# EAGLE library part FTSH-105-02-L-DV-ES (library 000_VansAircraft)
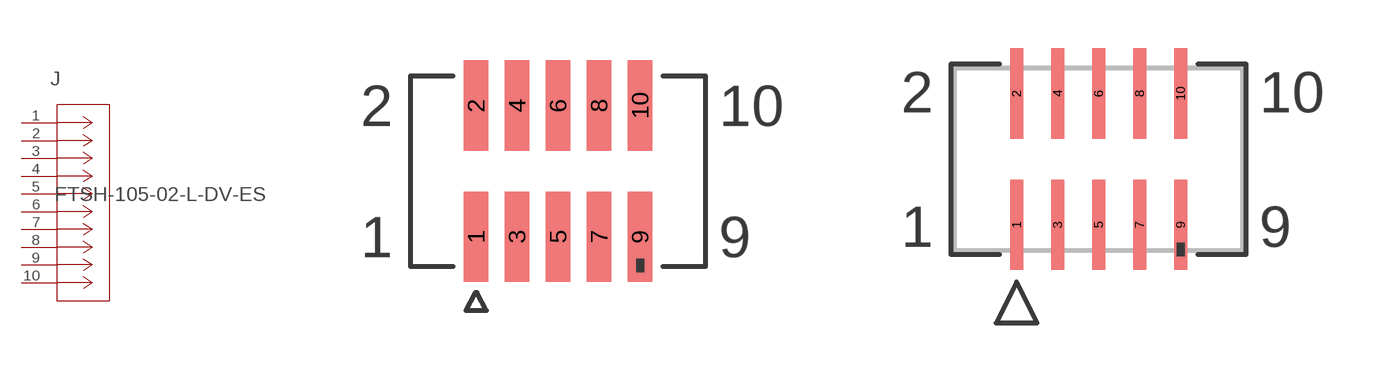
[diagram p8: symbol with the pads of CON10_2X5_DUES2_FTSH_SAI; footprints CON10_2X5_DUES2_FTSH_SAI, CON10_2X5_DUES2_FTSH_SAI-M]

Designator prefix J

## FTSH-105-02-L-DV-ES (COPYRIGHT: Copyright (C) 2025 Ultra Librarian. All rights reserved.; MANUFACTURER_NAME: Samtec Inc; MANUFACTURER_PART_NUMBER: FTSH-105-02-L-DV-ES)  [CON10_2X5_DUES2_FTSH_SAI]
1  1  pas
2  2  pas
3  3  pas
4  4  pas
5  5  pas
6  6  pas
7  7  pas
8  8  pas
9  9  pas
10  10  pas

## FTSH-105-02-L-DV-ESCON10_2X5_DUES2_FTSH_SAI-M (COPYRIGHT: Copyright (C) 2025 Ultra Librarian. All rights reserved.; MANUFACTURER_NAME: Samtec Inc; MANUFACTURER_PART_NUMBER: FTSH-105-02-L-DV-ES)  [CON10_2X5_DUES2_FTSH_SAI-M]
Pads as for CON10_2X5_DUES2_FTSH_SAI

## FTSH-105-02-L-DV-ESCON10_2X5_DUES2_FTSH_SAI-L (COPYRIGHT: Copyright (C) 2025 Ultra Librarian. All rights reserved.; MANUFACTURER_NAME: Samtec Inc; MANUFACTURER_PART_NUMBER: FTSH-105-02-L-DV-ES)  [CON10_2X5_DUES2_FTSH_SAI-L]
Pads as for CON10_2X5_DUES2_FTSH_SAI

## Footprint CON10_2X5_DUES2_FTSH_SAI (pad centres in mm)
smd 0.762 x 2.794: 1 -2.54,-2.032; 2 -2.54,2.032; 3 -1.27,-2.032; 4 -1.27,2.032; 5 0,-2.032; 6 0,2.032; 7 1.27,-2.032; 8 1.27,2.032; 9 2.54,-2.032; 10 2.54,2.032

## Footprint CON10_2X5_DUES2_FTSH_SAI-M (pad centres in mm)
smd 0.406 x 2.794: 1 -2.54,-2.032; 2 -2.54,2.032; 3 -1.27,-2.032; 4 -1.27,2.032; 5 0,-2.032; 6 0,2.032; 7 1.27,-2.032; 8 1.27,2.032; 9 2.54,-2.032; 10 2.54,2.032

## Footprint CON10_2X5_DUES2_FTSH_SAI-L (pad centres in mm)
smd 0.356 x 2.184: 1 -2.54,-2.032; 2 -2.54,2.032; 3 -1.27,-2.032; 4 -1.27,2.032; 5 0,-2.032; 6 0,2.032; 7 1.27,-2.032; 8 1.27,2.032; 9 2.54,-2.032; 10 2.54,2.032